# Altium footprint library Package_TO_SOT_THT.PcbLib: 236 footprints (part 2 of 15)
Each footprint in its own frame and in the unit in brackets; x right, y up, seen from the top. Pads: shape width x height; smd on the part's side, far side on the other; paste and mask are expansions set on the pad; w line width, h text height; cw(c..) or ccw(c..) is an arc to the next point about the centre after c.
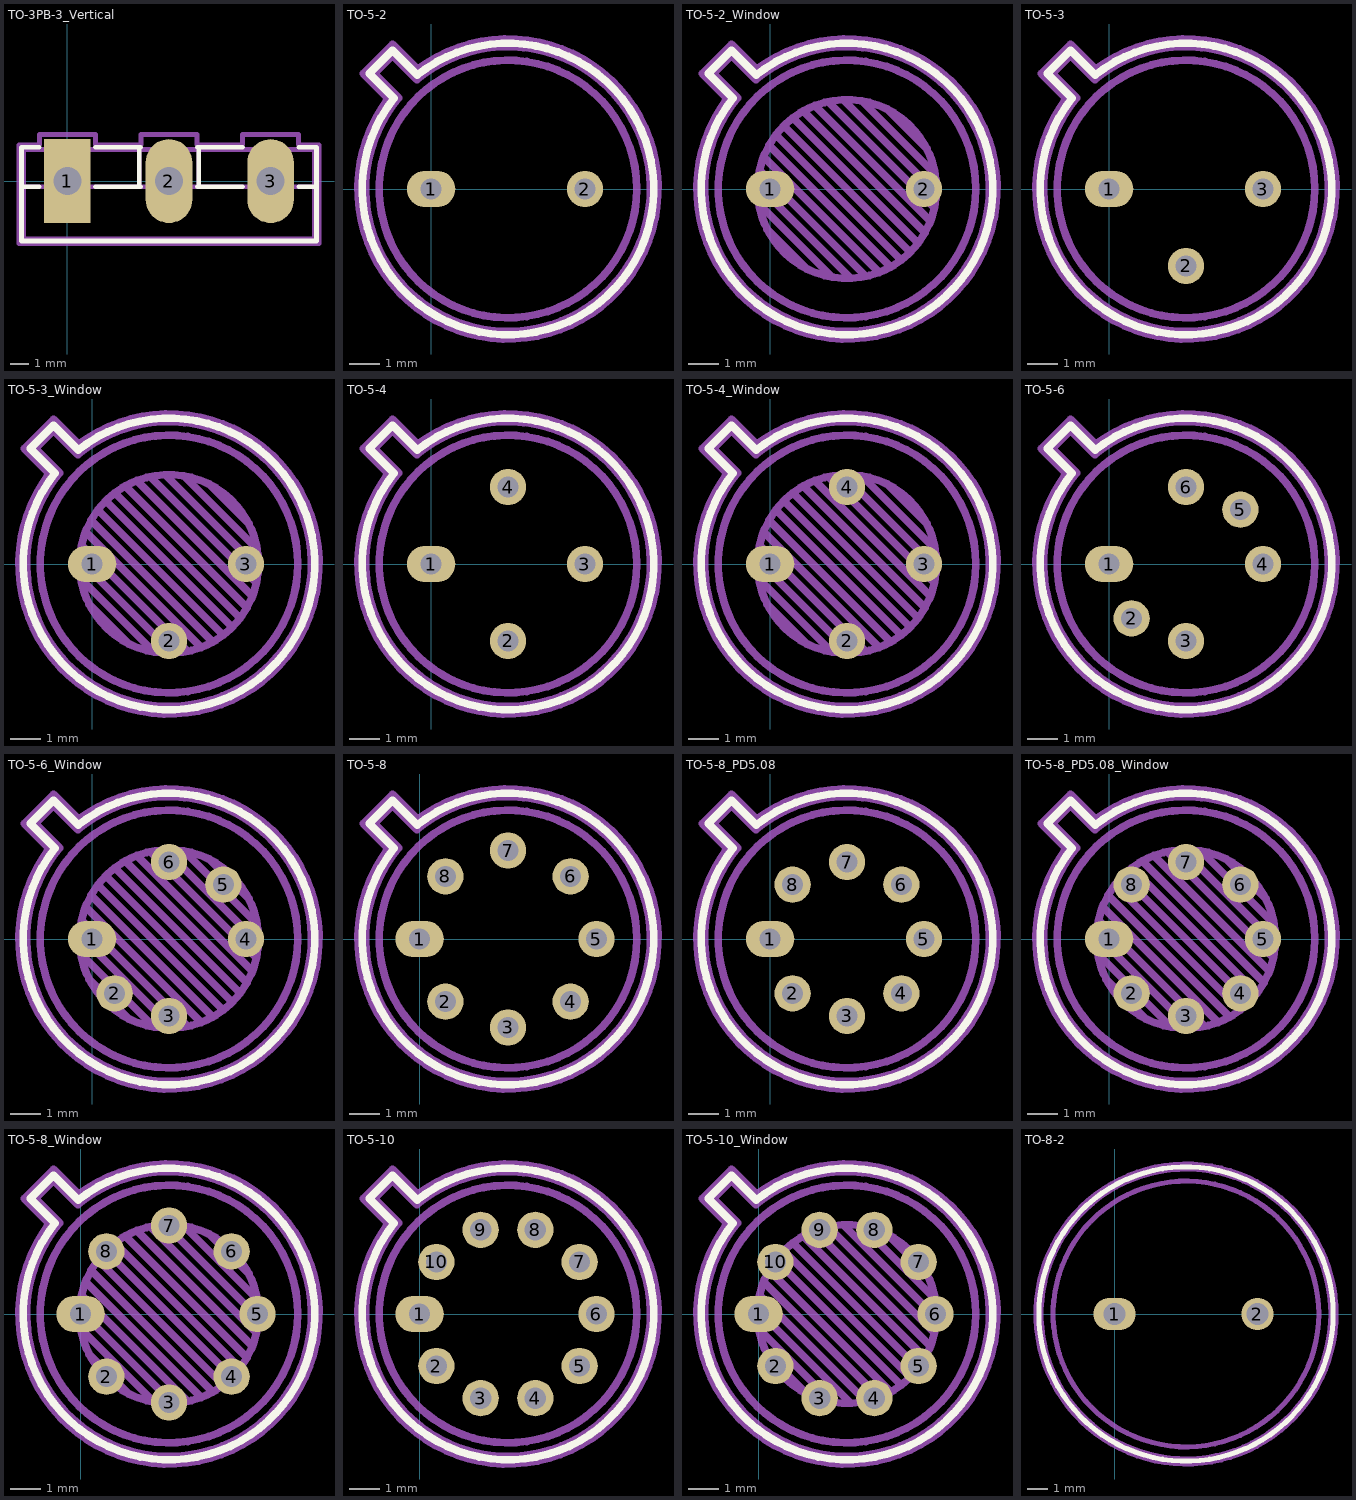
[diagram p1: the footprints below, top view; thin cyan lines are the x and y axes]

## TO-3PB-3_Vertical [mm]
pads (3):
  rect 2.5x4.5 hole 1.5: 1(0,0)
  rrect100% 2.5x4.5 hole 1.5: 2(5.45,0) 3(10.9,0)
F.SilkS:
  lines w0.254: -2.46,-0.3 -1.51,-0.3 ; -1.51,1.81 -2.46,1.81 -2.46,-3.21 13.36,-3.21 13.36,1.81 12.41,1.81 ; 1.51,-0.3 3.94,-0.3 ; 1.51,1.81 3.94,1.81 ; 3.85,-0.3 3.85,1.81 ; 6.96,-0.3 9.39,-0.3 ; 6.96,1.81 9.39,1.81 ; 7.05,-0.3 7.05,1.81 ; 12.41,-0.3 13.36,-0.3
F.Fab:
  lines w0.254: -2.35,-0.3 13.25,-0.3 ; 3.85,-0.3 3.85,1.7 ; 7.05,-0.3 7.05,1.7 ; -2.35,-3.1 -2.35,1.7 13.25,1.7 13.25,-3.1 -2.35,-3.1
  text "'.Designator'" at 1.403,-1.54 h1
F.CrtYd:
  lines w0.254: -2.6,-3.35 -2.6,1.95 -1.5,1.95 -1.5,2.5 1.5,2.5 1.5,1.95 3.95,1.95 3.95,2.5 6.95,2.5 6.95,1.95 9.4,1.95 9.4,2.5 12.4,2.5 12.4,1.95 13.5,1.95 13.5,-3.35 -2.6,-3.35
3D body "TO-3PB-3_Vertical.step": height 21.3, standoff -18, extent -2.305,-3.1 13.205,1.71

## TO-5-2 [mm]
pads (2):
  rrect100% 1.6x1.2 hole 0.7: 1(0,0)
  round 1.2 hole 0.7: 2(5.08,0)
F.SilkS:
  lines w0.254: -2.035,3.811 -1.222,2.998 ccw(c2.54,0) -0.458,3.762 -1.271,4.575 -2.035,3.811
F.Fab:
  circle w0.254: c2.54,0 r4.25
  lines w0.254: -1.88,3.812 -1.074,3.005 ccw(c2.54,0) -0.465,3.614 -1.272,4.42 -1.88,3.812
  text "'.Designator'" at -1.507,4.97 h1
F.CrtYd:
  lines w0.254: -2.231,3.81 -1.408,2.986 ccw(c2.54,0) -0.446,3.948 -1.27,4.771 -2.231,3.81
3D body "TO-5-2.step": height 8.6, standoff -8, extent -2.16,-4.697 7.24,4.697

## TO-5-2_Window [mm]
pads (2):
  rrect100% 1.6x1.2 hole 0.7: 1(0,0)
  round 1.2 hole 0.7: 2(5.08,0)
F.SilkS:
  lines w0.254: -2.035,3.811 -1.222,2.998 ccw(c2.54,0) -0.458,3.762 -1.271,4.575 -2.035,3.811
F.Fab:
  circle w0.254: c2.54,0 r2.95
  circle w0.254: c2.54,0 r4.25
  lines w0.254: -0.408,0.12 2.66,-2.948 ; -0.371,-0.485 2.055,-2.911 ; -0.344,0.622 3.162,-2.884 ; -0.215,1.058 3.598,-2.755 ; -0.097,-1.324 1.216,-2.637 ; -0.034,1.443 3.983,-2.574 ; 0.19,1.784 4.324,-2.35 ; 0.454,2.086 4.626,-2.086 ; 0.756,2.35 4.89,-1.784 ; 1.097,2.574 5.114,-1.443 ; 1.482,2.755 5.295,-1.058 ; 1.918,2.884 5.424,-0.622 ; 2.42,2.948 5.488,-0.12 ; 3.025,2.911 5.451,0.485 ; 3.864,2.637 5.177,1.324 ; -1.88,3.812 -1.074,3.005 ccw(c2.54,0) -0.465,3.614 -1.272,4.42 -1.88,3.812
  text "'.Designator'" at -1.507,4.97 h1
F.CrtYd:
  lines w0.254: -2.231,3.81 -1.408,2.986 ccw(c2.54,0) -0.446,3.948 -1.27,4.771 -2.231,3.81
3D body "TO-5-2_Window.step": height 8.6, standoff -8, extent -2.16,-4.697 7.24,4.697

## TO-5-3 [mm]
pads (3):
  rrect100% 1.6x1.2 hole 0.7: 1(0,0)
  round 1.2 hole 0.7: 2(2.54,-2.54) 3(5.08,0)
F.SilkS:
  lines w0.254: -2.035,3.811 -1.222,2.998 ccw(c2.54,0) -0.458,3.762 -1.271,4.575 -2.035,3.811
F.Fab:
  circle w0.254: c2.54,0 r4.25
  lines w0.254: -1.88,3.812 -1.074,3.005 ccw(c2.54,0) -0.465,3.614 -1.272,4.42 -1.88,3.812
  text "'.Designator'" at -1.507,4.97 h1
F.CrtYd:
  lines w0.254: -2.231,3.81 -1.408,2.986 ccw(c2.54,0) -0.446,3.948 -1.27,4.771 -2.231,3.81
3D body "TO-5-3.step": height 8.6, standoff -8, extent -2.16,-4.697 7.24,4.697

## TO-5-3_Window [mm]
pads (3):
  rrect100% 1.6x1.2 hole 0.7: 1(0,0)
  round 1.2 hole 0.7: 2(2.54,-2.54) 3(5.08,0)
F.SilkS:
  lines w0.254: -2.035,3.811 -1.222,2.998 ccw(c2.54,0) -0.458,3.762 -1.271,4.575 -2.035,3.811
F.Fab:
  circle w0.254: c2.54,0 r2.95
  circle w0.254: c2.54,0 r4.25
  lines w0.254: -0.408,0.12 2.66,-2.948 ; -0.371,-0.485 2.055,-2.911 ; -0.344,0.622 3.162,-2.884 ; -0.215,1.058 3.598,-2.755 ; -0.097,-1.324 1.216,-2.637 ; -0.034,1.443 3.983,-2.574 ; 0.19,1.784 4.324,-2.35 ; 0.454,2.086 4.626,-2.086 ; 0.756,2.35 4.89,-1.784 ; 1.097,2.574 5.114,-1.443 ; 1.482,2.755 5.295,-1.058 ; 1.918,2.884 5.424,-0.622 ; 2.42,2.948 5.488,-0.12 ; 3.025,2.911 5.451,0.485 ; 3.864,2.637 5.177,1.324 ; -1.88,3.812 -1.074,3.005 ccw(c2.54,0) -0.465,3.614 -1.272,4.42 -1.88,3.812
  text "'.Designator'" at -1.507,4.97 h1
F.CrtYd:
  lines w0.254: -2.231,3.81 -1.408,2.986 ccw(c2.54,0) -0.446,3.948 -1.27,4.771 -2.231,3.81
3D body "TO-5-3_Window.step": height 8.6, standoff -8, extent -2.16,-4.697 7.24,4.697

## TO-5-4 [mm]
pads (4):
  rrect100% 1.6x1.2 hole 0.7: 1(0,0)
  round 1.2 hole 0.7: 2(2.54,-2.54) 3(5.08,0) 4(2.54,2.54)
F.SilkS:
  lines w0.254: -2.035,3.811 -1.271,4.575 -0.458,3.762 cw(c2.54,0) -1.222,2.998 -2.035,3.811
F.Fab:
  circle w0.254: c2.54,0 r4.25
  lines w0.254: -1.88,3.812 -1.272,4.42 -0.465,3.614 cw(c2.54,0) -1.074,3.005 -1.88,3.812
  text "'.Designator'" at -1.507,4.97 h1
F.CrtYd:
  lines w0.254: -2.231,3.81 -1.27,4.771 -0.446,3.948 cw(c2.54,0) -1.408,2.986 -2.231,3.81

## TO-5-4_Window [mm]
pads (4):
  rrect100% 1.6x1.2 hole 0.7: 1(0,0)
  round 1.2 hole 0.7: 2(2.54,-2.54) 3(5.08,0) 4(2.54,2.54)
F.SilkS:
  lines w0.254: -2.035,3.811 -1.222,2.998 ccw(c2.54,0) -0.458,3.762 -1.271,4.575 -2.035,3.811
F.Fab:
  circle w0.254: c2.54,0 r2.95
  circle w0.254: c2.54,0 r4.25
  lines w0.254: -0.408,0.12 2.66,-2.948 ; -0.371,-0.485 2.055,-2.911 ; -0.344,0.622 3.162,-2.884 ; -0.215,1.058 3.598,-2.755 ; -0.097,-1.324 1.216,-2.637 ; -0.034,1.443 3.983,-2.574 ; 0.19,1.784 4.324,-2.35 ; 0.454,2.086 4.626,-2.086 ; 0.756,2.35 4.89,-1.784 ; 1.097,2.574 5.114,-1.443 ; 1.482,2.755 5.295,-1.058 ; 1.918,2.884 5.424,-0.622 ; 2.42,2.948 5.488,-0.12 ; 3.025,2.911 5.451,0.485 ; 3.864,2.637 5.177,1.324 ; -1.88,3.812 -1.074,3.005 ccw(c2.54,0) -0.465,3.614 -1.272,4.42 -1.88,3.812
  text "'.Designator'" at -1.507,4.97 h1
F.CrtYd:
  lines w0.254: -2.231,3.81 -1.408,2.986 ccw(c2.54,0) -0.446,3.948 -1.27,4.771 -2.231,3.81

## TO-5-6 [mm]
pads (6):
  rrect100% 1.6x1.2 hole 0.7: 1(0,0)
  round 1.2 hole 0.7: 2(0.744,-1.796) 3(2.54,-2.54) 4(5.08,0) 5(4.336,1.796) 6(2.54,2.54)
F.SilkS:
  lines w0.254: -2.035,3.811 -1.222,2.998 ccw(c2.54,0) -0.458,3.762 -1.271,4.575 -2.035,3.811
F.Fab:
  circle w0.254: c2.54,0 r4.25
  lines w0.254: -1.88,3.812 -1.074,3.005 ccw(c2.54,0) -0.465,3.614 -1.272,4.42 -1.88,3.812
  text "'.Designator'" at -1.507,4.97 h1
F.CrtYd:
  lines w0.254: -2.231,3.81 -1.408,2.986 ccw(c2.54,0) -0.446,3.948 -1.27,4.771 -2.231,3.81

## TO-5-6_Window [mm]
pads (6):
  rrect100% 1.6x1.2 hole 0.7: 1(0,0)
  round 1.2 hole 0.7: 2(0.744,-1.796) 3(2.54,-2.54) 4(5.08,0) 5(4.336,1.796) 6(2.54,2.54)
F.SilkS:
  lines w0.254: -2.035,3.811 -1.222,2.998 ccw(c2.54,0) -0.458,3.762 -1.271,4.575 -2.035,3.811
F.Fab:
  circle w0.254: c2.54,0 r2.95
  circle w0.254: c2.54,0 r4.25
  lines w0.254: -0.408,0.12 2.66,-2.948 ; -0.371,-0.485 2.055,-2.911 ; -0.344,0.622 3.162,-2.884 ; -0.215,1.058 3.598,-2.755 ; -0.097,-1.324 1.216,-2.637 ; -0.034,1.443 3.983,-2.574 ; 0.19,1.784 4.324,-2.35 ; 0.454,2.086 4.626,-2.086 ; 0.756,2.35 4.89,-1.784 ; 1.097,2.574 5.114,-1.443 ; 1.482,2.755 5.295,-1.058 ; 1.918,2.884 5.424,-0.622 ; 2.42,2.948 5.488,-0.12 ; 3.025,2.911 5.451,0.485 ; 3.864,2.637 5.177,1.324 ; -1.88,3.812 -1.074,3.005 ccw(c2.54,0) -0.465,3.614 -1.272,4.42 -1.88,3.812
  text "'.Designator'" at -1.507,4.97 h1
F.CrtYd:
  lines w0.254: -2.231,3.81 -1.408,2.986 ccw(c2.54,0) -0.446,3.948 -1.27,4.771 -2.231,3.81

## TO-5-8 [mm]
pads (8):
  rrect100% 1.6x1.2 hole 0.7: 1(0,0)
  round 1.2 hole 0.7: 2(0.855,-2.065) 3(2.92,-2.92) 4(4.985,-2.065) 5(5.84,0) 6(4.985,2.065) 7(2.92,2.92) 8(0.855,2.065)
F.SilkS:
  lines w0.254: -1.655,3.811 -0.842,2.998 ccw(c2.92,0) -0.078,3.762 -0.891,4.575 -1.655,3.811
F.Fab:
  circle w0.254: c2.92,0 r4.25
  lines w0.254: -1.5,3.812 -0.694,3.005 ccw(c2.92,0) -0.085,3.614 -0.892,4.42 -1.5,3.812
  text "'.Designator'" at -1.127,4.97 h1
F.CrtYd:
  lines w0.254: -1.851,3.81 -1.028,2.986 ccw(c2.92,0) -0.066,3.948 -0.89,4.771 -1.851,3.81

## TO-5-8_PD5.08 [mm]
pads (8):
  rrect100% 1.6x1.2 hole 0.7: 1(0,0)
  round 1.2 hole 0.7: 2(0.744,-1.796) 3(2.54,-2.54) 4(4.336,-1.796) 5(5.08,0) 6(4.336,1.796) 7(2.54,2.54) 8(0.744,1.796)
F.SilkS:
  lines w0.254: -2.035,3.811 -1.222,2.998 ccw(c2.54,0) -0.458,3.762 -1.271,4.575 -2.035,3.811
F.Fab:
  circle w0.254: c2.54,0 r4.25
  lines w0.254: -1.88,3.812 -1.074,3.005 ccw(c2.54,0) -0.465,3.614 -1.272,4.42 -1.88,3.812
  text "'.Designator'" at -1.507,4.97 h1
F.CrtYd:
  lines w0.254: -2.231,3.81 -1.408,2.986 ccw(c2.54,0) -0.446,3.948 -1.27,4.771 -2.231,3.81

## TO-5-8_PD5.08_Window [mm]
pads (8):
  rrect100% 1.6x1.2 hole 0.7: 1(0,0)
  round 1.2 hole 0.7: 2(0.744,-1.796) 3(2.54,-2.54) 4(4.336,-1.796) 5(5.08,0) 6(4.336,1.796) 7(2.54,2.54) 8(0.744,1.796)
F.SilkS:
  lines w0.254: -2.035,3.811 -1.222,2.998 ccw(c2.54,0) -0.458,3.762 -1.271,4.575 -2.035,3.811
F.Fab:
  circle w0.254: c2.54,0 r2.95
  circle w0.254: c2.54,0 r4.25
  lines w0.254: -0.408,0.12 2.66,-2.948 ; -0.371,-0.485 2.055,-2.911 ; -0.344,0.622 3.162,-2.884 ; -0.215,1.058 3.598,-2.755 ; -0.097,-1.324 1.216,-2.637 ; -0.034,1.443 3.983,-2.574 ; 0.19,1.784 4.324,-2.35 ; 0.454,2.086 4.626,-2.086 ; 0.756,2.35 4.89,-1.784 ; 1.097,2.574 5.114,-1.443 ; 1.482,2.755 5.295,-1.058 ; 1.918,2.884 5.424,-0.622 ; 2.42,2.948 5.488,-0.12 ; 3.025,2.911 5.451,0.485 ; 3.864,2.637 5.177,1.324 ; -1.88,3.812 -1.074,3.005 ccw(c2.54,0) -0.465,3.614 -1.272,4.42 -1.88,3.812
  text "'.Designator'" at -1.507,4.97 h1
F.CrtYd:
  lines w0.254: -2.231,3.81 -1.408,2.986 ccw(c2.54,0) -0.446,3.948 -1.27,4.771 -2.231,3.81

## TO-5-8_Window [mm]
pads (8):
  rrect100% 1.6x1.2 hole 0.7: 1(0,0)
  round 1.2 hole 0.7: 2(0.855,-2.065) 3(2.92,-2.92) 4(4.985,-2.065) 5(5.84,0) 6(4.985,2.065) 7(2.92,2.92) 8(0.855,2.065)
F.SilkS:
  lines w0.254: -1.655,3.811 -0.842,2.998 ccw(c2.92,0) -0.078,3.762 -0.891,4.575 -1.655,3.811
F.Fab:
  circle w0.254: c2.92,0 r2.95
  circle w0.254: c2.92,0 r4.25
  lines w0.254: -0.028,0.12 3.04,-2.948 ; 0.009,-0.485 2.435,-2.911 ; 0.036,0.622 3.542,-2.884 ; 0.165,1.058 3.978,-2.755 ; 0.283,-1.324 1.596,-2.637 ; 0.346,1.443 4.363,-2.574 ; 0.57,1.784 4.704,-2.35 ; 0.834,2.086 5.006,-2.086 ; 1.136,2.35 5.27,-1.784 ; 1.477,2.574 5.494,-1.443 ; 1.862,2.755 5.675,-1.058 ; 2.298,2.884 5.804,-0.622 ; 2.8,2.948 5.868,-0.12 ; 3.405,2.911 5.831,0.485 ; 4.244,2.637 5.557,1.324 ; -1.5,3.812 -0.694,3.005 ccw(c2.92,0) -0.085,3.614 -0.892,4.42 -1.5,3.812
  text "'.Designator'" at -1.127,4.97 h1
F.CrtYd:
  lines w0.254: -1.851,3.81 -1.028,2.986 ccw(c2.92,0) -0.066,3.948 -0.89,4.771 -1.851,3.81

## TO-5-10 [mm]
pads (10):
  rrect100% 1.6x1.2 hole 0.7: 1(0,0)
  round 1.2 hole 0.7: 2(0.558,-1.716) 3(2.018,-2.777) 4(3.822,-2.777) 5(5.282,-1.716) 6(5.84,0) 7(5.282,1.716) 8(3.822,2.777) 9(2.018,2.777) 10(0.558,1.716)
F.SilkS:
  lines w0.254: -1.655,3.811 -0.842,2.998 ccw(c2.92,0) -0.078,3.762 -0.891,4.575 -1.655,3.811
F.Fab:
  circle w0.254: c2.92,0 r4.25
  lines w0.254: -1.5,3.812 -0.694,3.005 ccw(c2.92,0) -0.085,3.614 -0.892,4.42 -1.5,3.812
  text "'.Designator'" at -1.127,4.97 h1
F.CrtYd:
  lines w0.254: -1.851,3.81 -1.028,2.986 ccw(c2.92,0) -0.066,3.948 -0.89,4.771 -1.851,3.81

## TO-5-10_Window [mm]
pads (10):
  rrect100% 1.6x1.2 hole 0.7: 1(0,0)
  round 1.2 hole 0.7: 2(0.558,-1.716) 3(2.018,-2.777) 4(3.822,-2.777) 5(5.282,-1.716) 6(5.84,0) 7(5.282,1.716) 8(3.822,2.777) 9(2.018,2.777) 10(0.558,1.716)
F.SilkS:
  lines w0.254: -1.655,3.811 -0.891,4.575 -0.078,3.762 cw(c2.92,0) -0.842,2.998 -1.655,3.811
F.Fab:
  circle w0.254: c2.92,0 r4.25
  circle w0.254: c2.92,0 r2.95
  lines w0.254: -0.028,0.12 3.04,-2.948 ; 0.009,-0.485 2.435,-2.911 ; 0.036,0.622 3.542,-2.884 ; 0.165,1.058 3.978,-2.755 ; 0.283,-1.324 1.596,-2.637 ; 0.346,1.443 4.363,-2.574 ; 0.57,1.784 4.704,-2.35 ; 0.834,2.086 5.006,-2.086 ; 1.136,2.35 5.27,-1.784 ; 1.477,2.574 5.494,-1.443 ; 1.862,2.755 5.675,-1.058 ; 2.298,2.884 5.804,-0.622 ; 2.8,2.948 5.868,-0.12 ; 3.405,2.911 5.831,0.485 ; 4.244,2.637 5.557,1.324 ; -1.5,3.812 -0.892,4.42 -0.085,3.614 cw(c2.92,0) -0.694,3.005 -1.5,3.812
  text "'.Designator'" at -1.127,4.97 h1
F.CrtYd:
  lines w0.254: -1.851,3.81 -0.89,4.771 -0.066,3.948 cw(c2.92,0) -1.028,2.986 -1.851,3.81

## TO-8-2 [mm]
pads (2):
  rrect100% 2.1x1.6 hole 1.1: 1(0,0)
  round 1.6 hole 1.1: 2(7.1,0)
F.SilkS:
  circle w0.254: c3.55,0 r7.31
F.Fab:
  circle w0.254: c3.55,0 r6.6
  circle w0.254: c3.55,0 r7.2
  text "'.Designator'" at -0.497,7.47 h1
F.CrtYd:
  circle w0.254: c3.55,0 r7.45
3D body "TO-8-2.step": height 10.2, standoff -8, extent -3.65,-7.198 10.75,7.199